# Altium integrated library USBC.IntLib: 1 symbol
Pins are listed as number, name and electrical type; pins without a type are passive.

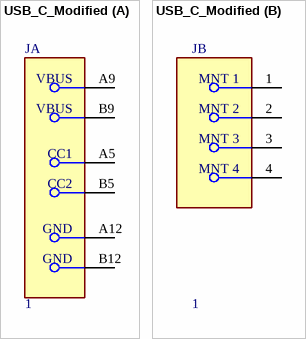
[diagram p0: symbol USB_C_Modified]

## USB_C_Modified
designator J, comment 1
CONN RCP USB2.0 C 6+18P SMD RA
footprint USB_C_Modified
part A pins: A5 CC1, A9 VBUS (power), A12 GND (power), B5 CC2, B9 VBUS (power), B12 GND (power)
part B pins: 1 MNT 1, 2 MNT 2, 3 MNT 3, 4 MNT 4